# Altium integrated library diods.IntLib: 3 symbols
Pins are listed as number, name and electrical type; pins without a type are passive.

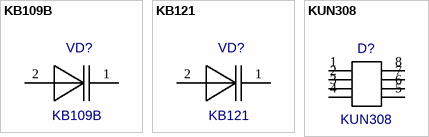
[diagram p0: symbols KB109B to KUN308]

## KB109B
designator VD?
Value: *
footprint KB10X
pins: 1, 2

## KB121
designator VD?
Value: *
footprint KB10X
pins: 1, 2

## KUN308
designator D?
Value: *
footprint KUN308
pins: 1, 2, 3, 4 Vcc (power), 5, 6, 7, 8 GND (power)